# EAGLE library part UC3525A (library m_misc)
Texas Instruments UC3525A Regulating Pulse Width Modulator
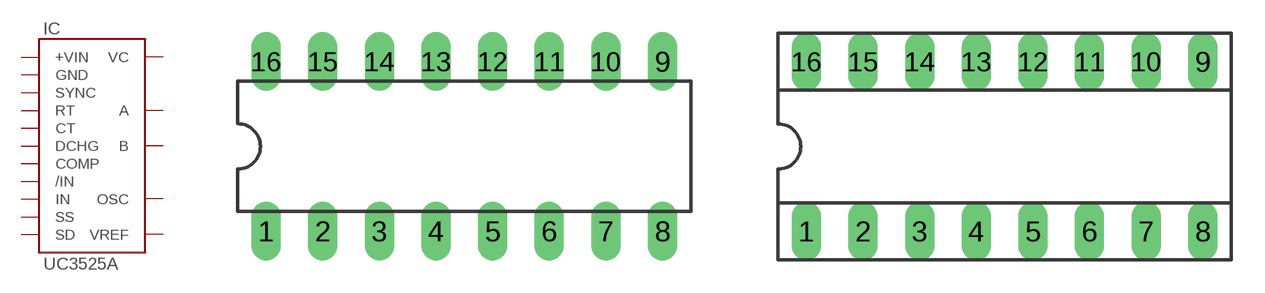
[diagram p16: symbol with the pads of DIL16; footprints DIL16, SOCKED-16]

Designator prefix IC

## UC3525A  [DIL16]
1  /IN  in
2  IN  in
3  SYNC  in
4  OSC  pas
5  CT  pas
6  RT  pas
7  DCHG  pas
8  SS  pas
9  COMP  in
10  SD  pas
11  A  out
12  GND  sup
13  VC  pwr
14  B  out
15  +VIN  sup
16  VREF  out

## UC3525AS  [SOCKED-16]
Pads as for DIL16

## Footprint DIL16 (pad centres in mm)
Dual In Line Package
drill 0.813 long: 1 -8.89,-3.81; 2 -6.35,-3.81; 3 -3.81,-3.81; 4 -1.27,-3.81; 5 1.27,-3.81; 6 3.81,-3.81; 7 6.35,-3.81; 8 8.89,-3.81; 9 8.89,3.81; 10 6.35,3.81; 11 3.81,3.81; 12 1.27,3.81; 13 -1.27,3.81; 14 -3.81,3.81; 15 -6.35,3.81; 16 -8.89,3.81

## Footprint SOCKED-16 (pad centres in mm)
Dual In Line Socket
drill 0.813 long: 1 -8.89,-3.81; 2 -6.35,-3.81; 3 -3.81,-3.81; 4 -1.27,-3.81; 5 1.27,-3.81; 6 3.81,-3.81; 7 6.35,-3.81; 8 8.89,-3.81; 9 8.89,3.81; 10 6.35,3.81; 11 3.81,3.81; 12 1.27,3.81; 13 -1.27,3.81; 14 -3.81,3.81; 15 -6.35,3.81; 16 -8.89,3.81